# Altium footprint library DIOM5336X265N.PcbLib: 1 footprints
Each footprint in its own frame and in the unit in brackets; x right, y up, seen from the top. Pads: shape width x height; smd on the part's side, far side on the other; paste and mask are expansions set on the pad; w line width, h text height; cw(c..) or ccw(c..) is an arc to the next point about the centre after c.
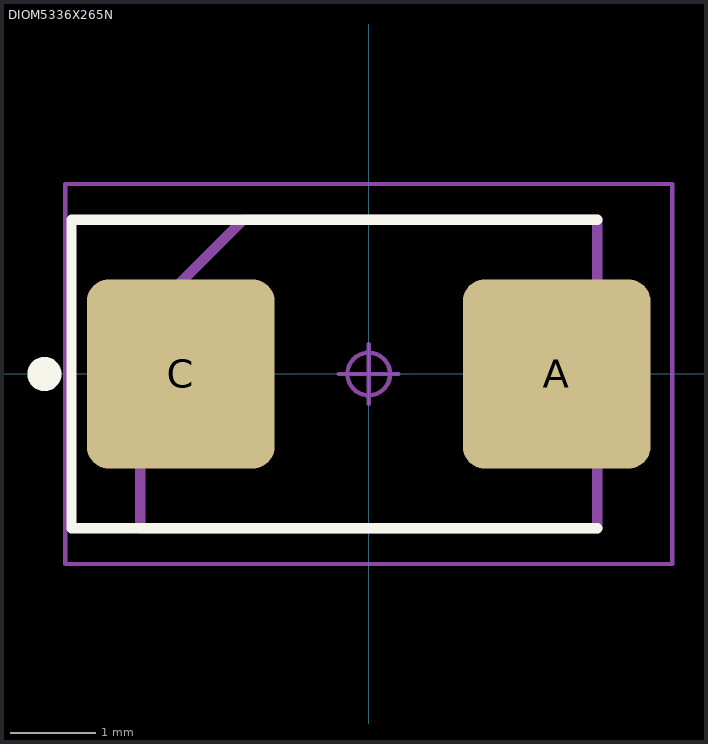
[diagram p0: the footprint, top view; thin cyan lines are the x and y axes]

## DIOM5336X265N [mm] "Diode, Molded Body; 5.35 mm L X 3.625 mm W X 2.65 mm H body"
height 2.65
pads (2):
  rrect23% 2.2x2.22 smd: A(2.205,0) C(-2.205,0)
Top Overlay:
  circle w0.2: c-3.805,0 r0.1
  lines w0.12: 2.68,-1.81 -3.485,-1.81 -3.485,1.81 2.68,1.81
Fab - Detail1, HDI1:
  lines w0.12: -2.68,-1.81 -2.68,0.603 -1.473,1.81 2.68,1.81 2.68,-1.81 -2.68,-1.81
Courtyards/Models - Top:
  circle w0.05: c0,0 r0.25
  lines w0.05: -0.35,0 0.35,0 ; 0,-0.35 0,0.35 ; -3.56,-2.23 -3.56,2.23 3.56,2.23 3.56,-2.23 -3.56,-2.23
3D body "DIOM5539X24.step": height 2.45, standoff 0.03, extent -2.75,-1.95 2.75,1.95